# Altium footprint library INA219.PcbLib: 1 footprints
Each footprint in its own frame and in the unit in brackets; x right, y up, seen from the top. Pads: shape width x height; smd on the part's side, far side on the other; paste and mask are expansions set on the pad; w line width, h text height; cw(c..) or ccw(c..) is an arc to the next point about the centre after c.
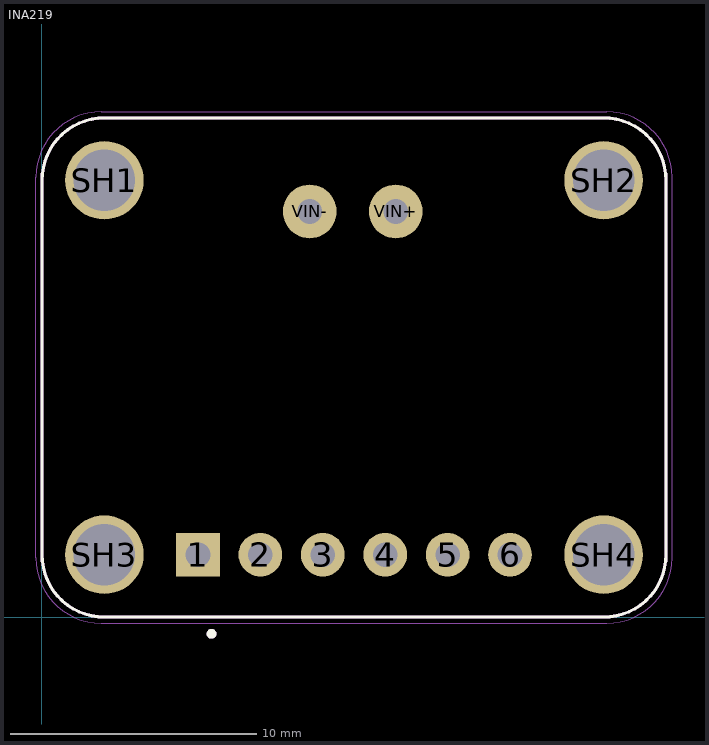
[diagram p0: the footprint, top view; thin cyan lines are the x and y axes]

## INA219 [mm]
pads (12):
  rect 1.778x1.778 / inner round 1.778 / far side rect 1.778x1.778 hole 1: 1(6.35,2.54)
  round 1.778 hole 1: 2(8.89,2.54) 3(11.43,2.54) 4(13.97,2.54) 5(16.51,2.54) 6(19.05,2.54)
  round 3.2 hole 2.5: SH1(2.54,17.78) SH2(22.86,17.78) SH3(2.54,2.54) SH4(22.86,2.54)
  round 2.184 hole 1: VIN+(14.4,16.51) VIN-(10.9,16.51)
Top Overlay:
  circle w0.2: c6.9,-0.68 r0.1
  lines w0.127: 0,2.54 ccw(c2.54,2.54) 2.54,0 22.86,0 ccw(c22.86,2.54) 25.4,2.54 25.4,17.78 ccw(c22.86,17.78) 22.86,20.32 2.54,20.32 ccw(c2.54,17.78) 0,17.78 0,2.54
Mechanical 13:
  circle w0.2: c6.9,-0.68 r0.1
  lines w0.127: 0,2.54 ccw(c2.54,2.54) 2.54,0 22.86,0 ccw(c22.86,2.54) 25.4,2.54 25.4,17.78 ccw(c22.86,17.78) 22.86,20.32 2.54,20.32 ccw(c2.54,17.78) 0,17.78 0,2.54
Mechanical 15:
  lines w0.05: -0.25,2.415 ccw(c2.415,2.415) 2.415,-0.25 22.985,-0.25 ccw(c22.985,2.415) 25.65,2.415 25.65,17.9 ccw(c22.98,17.9) 22.98,20.57 2.42,20.57 ccw(c2.42,17.9) -0.25,17.9 -0.25,2.415
3D body "step_temp.STEP": height 2.95, standoff -1.57, extent 0,0 25.4,20.32